# Altium schematic symbol library P1010-BGA425.SchLib: 1 symbol
Pins are listed as number, name and electrical type; pins without a type are passive.

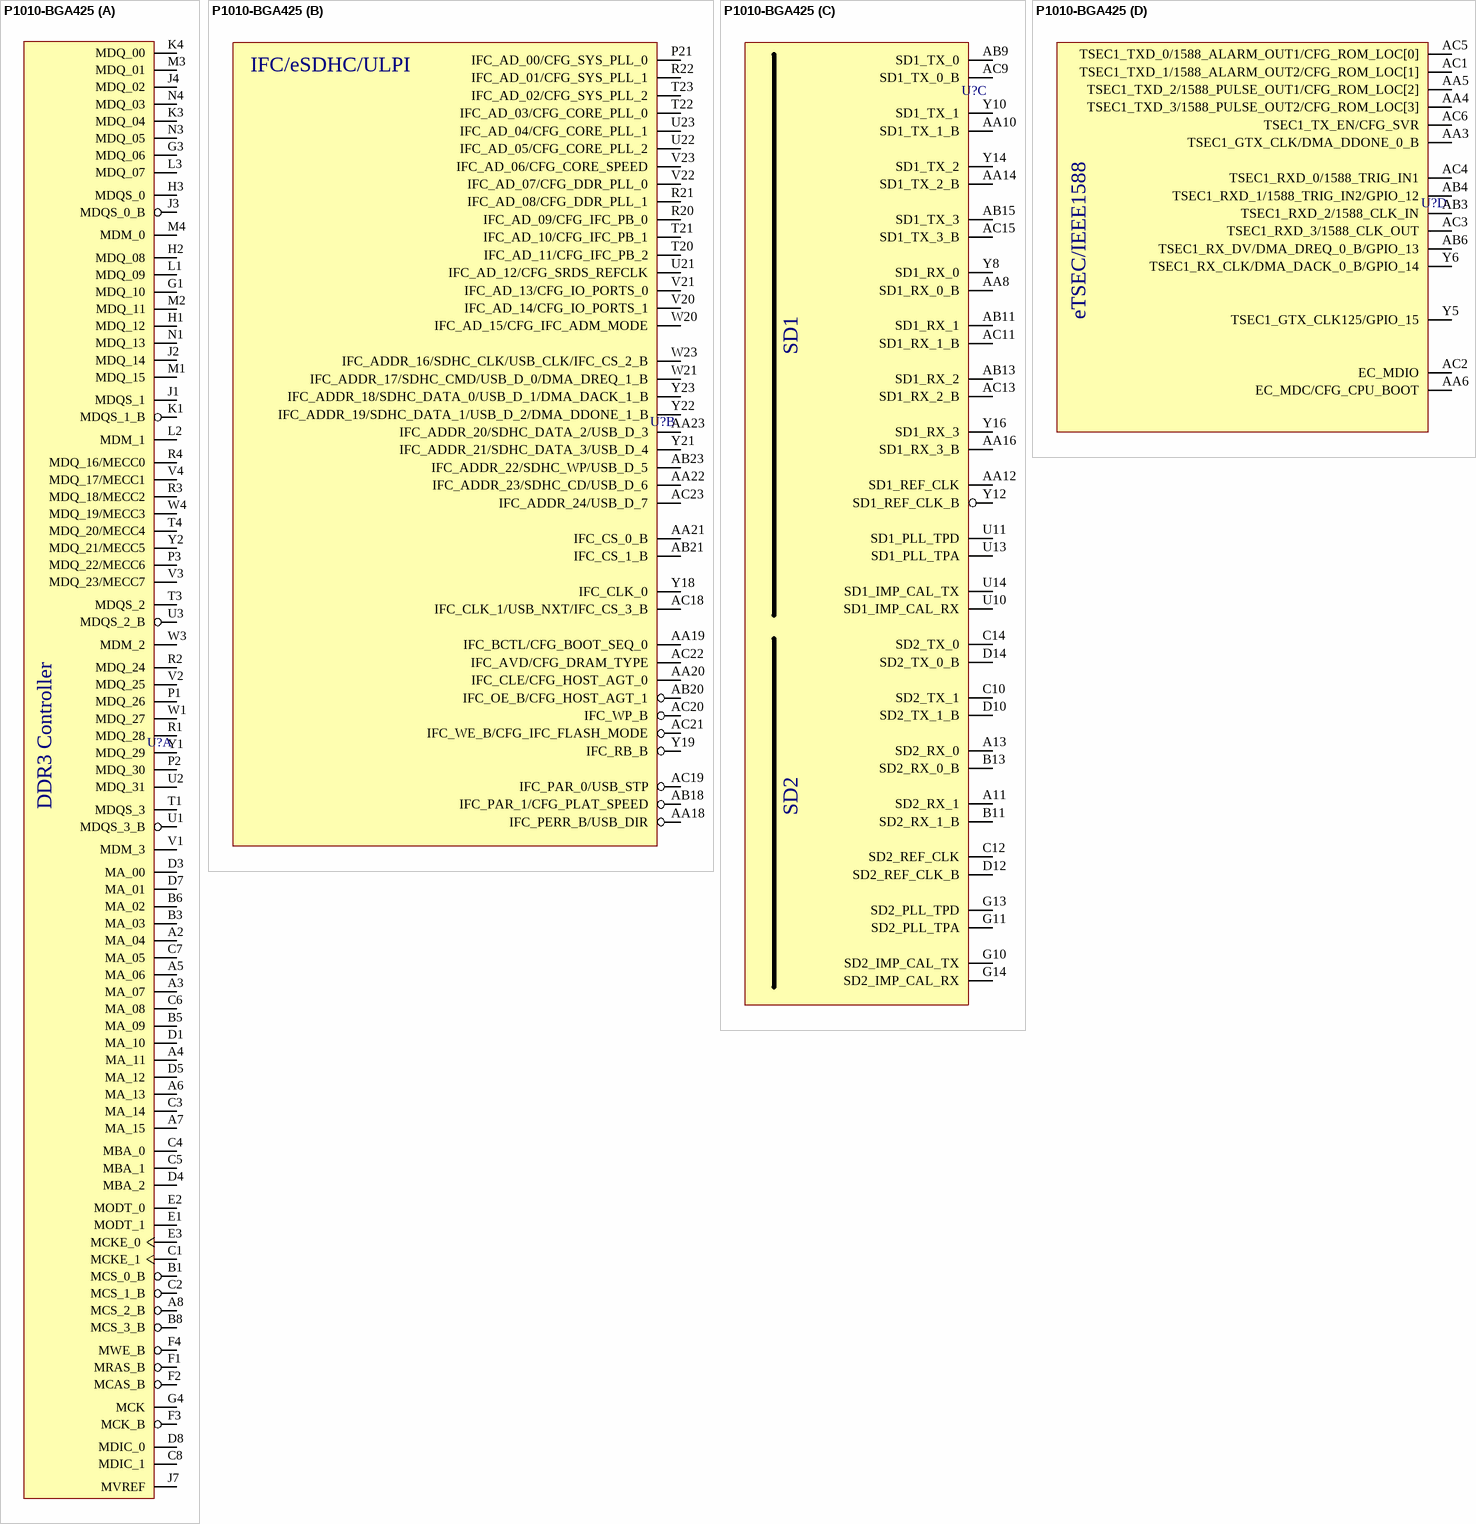
[diagram p0: symbol P1010-BGA425]

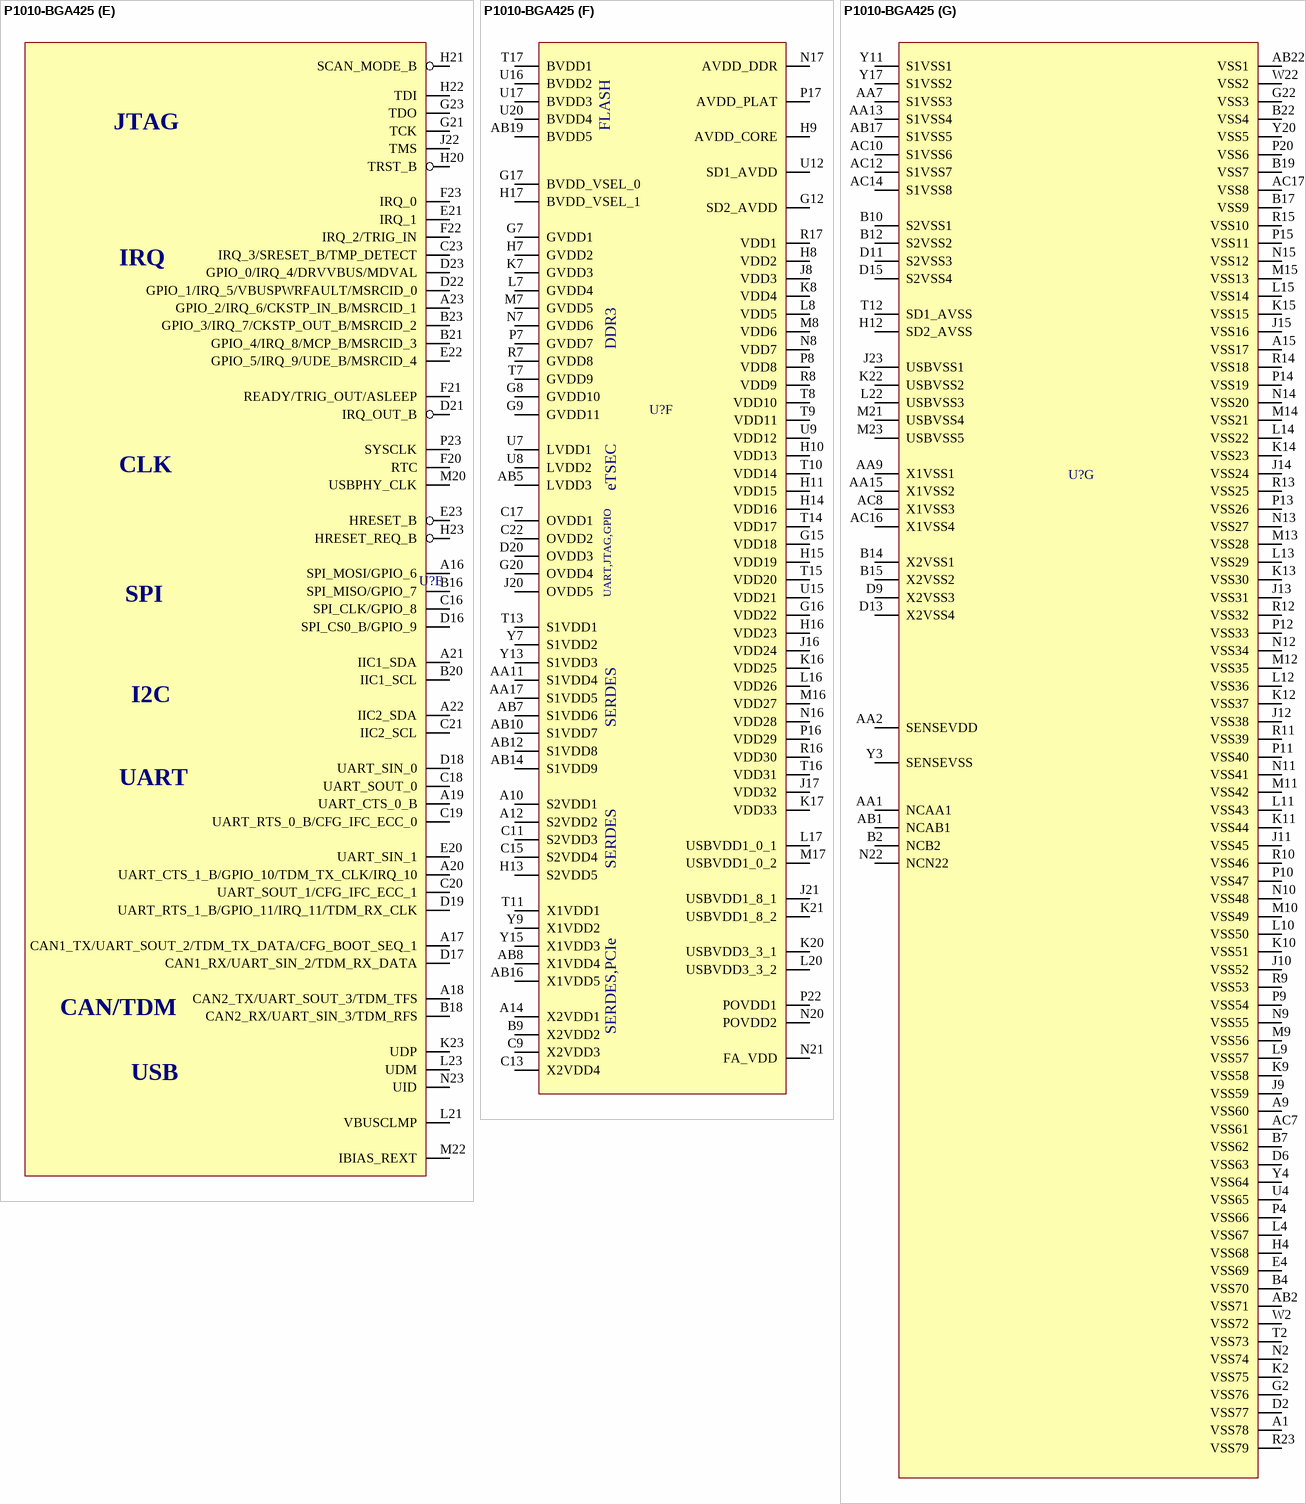
[diagram p1: symbol P1010-BGA425]

## P1010-BGA425
designator U?  (value not drawn)
part A pins: A2 MA_04, A3 MA_07, A4 MA_11, A5 MA_06, A6 MA_13, A7 MA_15, A8 MCS_2_B, B1 MCS_0_B, B3 MA_03, B5 MA_09, B6 MA_02, B8 MCS_3_B, C1 MCKE_1, C2 MCS_1_B, C3 MA_14, C4 MBA_0, C5 MBA_1, C6 MA_08, C7 MA_05, C8 MDIC_1, D1 MA_10, D3 MA_00, D4 MBA_2, D5 MA_12, D7 MA_01, D8 MDIC_0, E1 MODT_1, E2 MODT_0, E3 MCKE_0, F1 MRAS_B, F2 MCAS_B, F3 MCK_B, F4 MWE_B, G1 MDQ_10, G3 MDQ_06, G4 MCK, H1 MDQ_12, H2 MDQ_08, H3 MDQS_0, J1 MDQS_1, J2 MDQ_14, J3 MDQS_0_B, J4 MDQ_02, J7 MVREF, K1 MDQS_1_B, K3 MDQ_04, K4 MDQ_00, L1 MDQ_09, L2 MDM_1, L3 MDQ_07, M1 MDQ_15, M2 MDQ_11, M3 MDQ_01, M4 MDM_0, N1 MDQ_13, N3 MDQ_05, N4 MDQ_03, P1 MDQ_26, P2 MDQ_30, P3 MDQ_22/MECC6, R1 MDQ_28, R2 MDQ_24, R3 MDQ_18/MECC2, R4 MDQ_16/MECC0, T1 MDQS_3, T3 MDQS_2, T4 MDQ_20/MECC4, U1 MDQS_3_B, U2 MDQ_31, U3 MDQS_2_B, V1 MDM_3, V2 MDQ_25, V3 MDQ_23/MECC7, V4 MDQ_17/MECC1, W1 MDQ_27, W3 MDM_2, W4 MDQ_19/MECC3, Y1 MDQ_29, Y2 MDQ_21/MECC5
part B pins: AA18 IFC_PERR_B/USB_DIR, AA19 IFC_BCTL/CFG_BOOT_SEQ_0, AA20 IFC_CLE/CFG_HOST_AGT_0, AA21 IFC_CS_0_B, AA22 IFC_ADDR_23/SDHC_CD/USB_D_6, AA23 IFC_ADDR_20/SDHC_DATA_2/USB_D_3, AB18 IFC_PAR_1/CFG_PLAT_SPEED, AB20 IFC_OE_B/CFG_HOST_AGT_1, AB21 IFC_CS_1_B, AB23 IFC_ADDR_22/SDHC_WP/USB_D_5, AC18 IFC_CLK_1/USB_NXT/IFC_CS_3_B, AC19 IFC_PAR_0/USB_STP, AC20 IFC_WP_B, AC21 IFC_WE_B/CFG_IFC_FLASH_MODE, AC22 IFC_AVD/CFG_DRAM_TYPE, AC23 IFC_ADDR_24/USB_D_7, P21 IFC_AD_00/CFG_SYS_PLL_0, R20 IFC_AD_09/CFG_IFC_PB_0, R21 IFC_AD_08/CFG_DDR_PLL_1, R22 IFC_AD_01/CFG_SYS_PLL_1, T20 IFC_AD_11/CFG_IFC_PB_2, T21 IFC_AD_10/CFG_IFC_PB_1, T22 IFC_AD_03/CFG_CORE_PLL_0, T23 IFC_AD_02/CFG_SYS_PLL_2, U21 IFC_AD_12/CFG_SRDS_REFCLK, U22 IFC_AD_05/CFG_CORE_PLL_2, U23 IFC_AD_04/CFG_CORE_PLL_1, V20 IFC_AD_14/CFG_IO_PORTS_1, V21 IFC_AD_13/CFG_IO_PORTS_0, V22 IFC_AD_07/CFG_DDR_PLL_0, V23 IFC_AD_06/CFG_CORE_SPEED, W20 IFC_AD_15/CFG_IFC_ADM_MODE, W21 IFC_ADDR_17/SDHC_CMD/USB_D_0/DMA_DREQ_1_B, W23 IFC_ADDR_16/SDHC_CLK/USB_CLK/IFC_CS_2_B, Y18 IFC_CLK_0, Y19 IFC_RB_B, Y21 IFC_ADDR_21/SDHC_DATA_3/USB_D_4, Y22 IFC_ADDR_19/SDHC_DATA_1/USB_D_2/DMA_DDONE_1_B, Y23 IFC_ADDR_18/SDHC_DATA_0/USB_D_1/DMA_DACK_1_B
part C pins: A11 SD2_RX_1, A13 SD2_RX_0, AA8 SD1_RX_0_B, AA10 SD1_TX_1_B, AA12 SD1_REF_CLK, AA14 SD1_TX_2_B, AA16 SD1_RX_3_B, AB9 SD1_TX_0, AB11 SD1_RX_1, AB13 SD1_RX_2, AB15 SD1_TX_3, AC9 SD1_TX_0_B, AC11 SD1_RX_1_B, AC13 SD1_RX_2_B, AC15 SD1_TX_3_B, B11 SD2_RX_1_B, B13 SD2_RX_0_B, C10 SD2_TX_1, C12 SD2_REF_CLK, C14 SD2_TX_0, D10 SD2_TX_1_B, D12 SD2_REF_CLK_B, D14 SD2_TX_0_B, G10 SD2_IMP_CAL_TX, G11 SD2_PLL_TPA, G13 SD2_PLL_TPD, G14 SD2_IMP_CAL_RX, U10 SD1_IMP_CAL_RX, U11 SD1_PLL_TPD, U13 SD1_PLL_TPA, U14 SD1_IMP_CAL_TX, Y8 SD1_RX_0, Y10 SD1_TX_1, Y12 SD1_REF_CLK_B, Y14 SD1_TX_2, Y16 SD1_RX_3
part D pins: AA3 TSEC1_GTX_CLK/DMA_DDONE_0_B, AA4 TSEC1_TXD_3/1588_PULSE_OUT2/CFG_ROM_LOC[3], AA5 TSEC1_TXD_2/1588_PULSE_OUT1/CFG_ROM_LOC[2], AA6 EC_MDC/CFG_CPU_BOOT, AB3 TSEC1_RXD_2/1588_CLK_IN, AB4 TSEC1_RXD_1/1588_TRIG_IN2/GPIO_12, AB6 TSEC1_RX_DV/DMA_DREQ_0_B/GPIO_13, AC1 TSEC1_TXD_1/1588_ALARM_OUT2/CFG_ROM_LOC[1], AC2 EC_MDIO, AC3 TSEC1_RXD_3/1588_CLK_OUT, AC4 TSEC1_RXD_0/1588_TRIG_IN1, AC5 TSEC1_TXD_0/1588_ALARM_OUT1/CFG_ROM_LOC[0], AC6 TSEC1_TX_EN/CFG_SVR, Y5 TSEC1_GTX_CLK125/GPIO_15, Y6 TSEC1_RX_CLK/DMA_DACK_0_B/GPIO_14
part E pins: A16 SPI_MOSI/GPIO_6, A17 CAN1_TX/UART_SOUT_2/TDM_TX_DATA/CFG_BOOT_SEQ_1, A18 CAN2_TX/UART_SOUT_3/TDM_TFS, A19 UART_CTS_0_B, A20 UART_CTS_1_B/GPIO_10/TDM_TX_CLK/IRQ_10, A21 IIC1_SDA, A22 IIC2_SDA, A23 GPIO_2/IRQ_6/CKSTP_IN_B/MSRCID_1, B16 SPI_MISO/GPIO_7, B18 CAN2_RX/UART_SIN_3/TDM_RFS, B20 IIC1_SCL, B21 GPIO_4/IRQ_8/MCP_B/MSRCID_3, B23 GPIO_3/IRQ_7/CKSTP_OUT_B/MSRCID_2, C16 SPI_CLK/GPIO_8, C18 UART_SOUT_0, C19 UART_RTS_0_B/CFG_IFC_ECC_0, C20 UART_SOUT_1/CFG_IFC_ECC_1, C21 IIC2_SCL, C23 IRQ_3/SRESET_B/TMP_DETECT, D16 SPI_CS0_B/GPIO_9, D17 CAN1_RX/UART_SIN_2/TDM_RX_DATA, D18 UART_SIN_0, D19 UART_RTS_1_B/GPIO_11/IRQ_11/TDM_RX_CLK, D21 IRQ_OUT_B, D22 GPIO_1/IRQ_5/VBUSPWRFAULT/MSRCID_0, D23 GPIO_0/IRQ_4/DRVVBUS/MDVAL, E20 UART_SIN_1, E21 IRQ_1, E22 GPIO_5/IRQ_9/UDE_B/MSRCID_4, E23 HRESET_B, F20 RTC, F21 READY/TRIG_OUT/ASLEEP, F22 IRQ_2/TRIG_IN, F23 IRQ_0, G21 TCK, G23 TDO, H20 TRST_B, H21 SCAN_MODE_B, H22 TDI, H23 HRESET_REQ_B, J22 TMS, K23 UDP, L21 VBUSCLMP, L23 UDM, M20 USBPHY_CLK, M22 IBIAS_REXT, N23 UID, P23 SYSCLK
part F pins: A10 S2VDD1 (power), A12 S2VDD2 (power), A14 X2VDD1 (power), AA11 S1VDD4 (power), AA17 S1VDD5 (power), AB5 LVDD3 (power), AB7 S1VDD6 (power), AB8 X1VDD4 (power), AB10 S1VDD7 (power), AB12 S1VDD8 (power), AB14 S1VDD9 (power), AB16 X1VDD5 (power), AB19 BVDD5 (power), B9 X2VDD2 (power), C9 X2VDD3 (power), C11 S2VDD3 (power), C13 X2VDD4 (power), C15 S2VDD4 (power), C17 OVDD1 (power), C22 OVDD2 (power), D20 OVDD3 (power), G7 GVDD1 (power), G8 GVDD10 (power), G9 GVDD11 (power), G12 SD2_AVDD (power), G15 VDD18 (power), G16 VDD22 (power), G17 BVDD_VSEL_0 (power), G20 OVDD4 (power), H7 GVDD2 (power), H8 VDD2 (power), H9 AVDD_CORE (power), H10 VDD13 (power), H11 VDD15 (power), H13 S2VDD5 (power), H14 VDD16 (power), H15 VDD19 (power), H16 VDD23 (power), H17 BVDD_VSEL_1 (power), J8 VDD3 (power), J16 VDD24 (power), J17 VDD32 (power), J20 OVDD5 (power), J21 USBVDD1_8_1 (power), K7 GVDD3 (power), K8 VDD4 (power), K16 VDD25 (power), K17 VDD33 (power), K20 USBVDD3_3_1 (power), K21 USBVDD1_8_2 (power), L7 GVDD4 (power), L8 VDD5 (power), L16 VDD26 (power), L17 USBVDD1_0_1 (power), L20 USBVDD3_3_2 (power), M7 GVDD5 (power), M8 VDD6 (power), M16 VDD27 (power), M17 USBVDD1_0_2 (power), N7 GVDD6 (power), N8 VDD7 (power), N16 VDD28 (power), N17 AVDD_DDR (power), N20 POVDD2 (power), N21 FA_VDD (power), P7 GVDD7 (power), P8 VDD8 (power), P16 VDD29 (power), P17 AVDD_PLAT (power), P22 POVDD1 (power), R7 GVDD8 (power), R8 VDD9 (power), R16 VDD30 (power), R17 VDD1 (power), T7 GVDD9 (power), T8 VDD10 (power), T9 VDD11 (power), T10 VDD14 (power), T11 X1VDD1 (power), T13 S1VDD1 (power), T14 VDD17 (power), T15 VDD20 (power), T16 VDD31 (power), T17 BVDD1 (power), U7 LVDD1 (power), U8 LVDD2 (power), U9 VDD12 (power), U12 SD1_AVDD (power), U15 VDD21 (power), U16 BVDD2 (power), U17 BVDD3 (power), U20 BVDD4 (power), Y7 S1VDD2 (power), Y9 X1VDD2 (power), Y13 S1VDD3 (power), Y15 X1VDD3 (power)
part G pins: A1 VSS78 (power), A9 VSS60 (power), A15 VSS17 (power), AA1 NCAA1 (power), AA2 SENSEVDD (power), AA7 S1VSS3 (power), AA9 X1VSS1 (power), AA13 S1VSS4 (power), AA15 X1VSS2 (power), AB1 NCAB1 (power), AB2 VSS71 (power), AB17 S1VSS5 (power), AB22 VSS1 (power), AC7 VSS61 (power), AC8 X1VSS3 (power), AC10 S1VSS6 (power), AC12 S1VSS7 (power), AC14 S1VSS8 (power), AC16 X1VSS4 (power), AC17 VSS8 (power), B2 NCB2 (power), B4 VSS70 (power), B7 VSS62 (power), B10 S2VSS1 (power), B12 S2VSS2 (power), B14 X2VSS1 (power), B15 X2VSS2 (power), B17 VSS9 (power), B19 VSS7 (power), B22 VSS4 (power), D2 VSS77 (power), D6 VSS63 (power), D9 X2VSS3 (power), D11 S2VSS3 (power), D13 X2VSS4 (power), D15 S2VSS4 (power), E4 VSS69 (power), G2 VSS76 (power), G22 VSS3 (power), H4 VSS68 (power), H12 SD2_AVSS (power), J9 VSS59 (power), J10 VSS52 (power), J11 VSS45 (power), J12 VSS38 (power), J13 VSS31 (power), J14 VSS24 (power), J15 VSS16 (power), J23 USBVSS1 (power), K2 VSS75 (power), K9 VSS58 (power), K10 VSS51 (power), K11 VSS44 (power), K12 VSS37 (power), K13 VSS30 (power), K14 VSS23 (power), K15 VSS15 (power), K22 USBVSS2 (power), L4 VSS67 (power), L9 VSS57 (power), L10 VSS50 (power), L11 VSS43 (power), L12 VSS36 (power), L13 VSS29 (power), L14 VSS22 (power), L15 VSS14 (power), L22 USBVSS3 (power), M9 VSS56 (power), M10 VSS49 (power), M11 VSS42 (power), M12 VSS35 (power), M13 VSS28 (power), M14 VSS21 (power), M15 VSS13 (power), M21 USBVSS4 (power), M23 USBVSS5 (power), N2 VSS74 (power), N9 VSS55 (power), N10 VSS48 (power), N11 VSS41 (power), N12 VSS34 (power), N13 VSS27 (power), N14 VSS20 (power), N15 VSS12 (power), N22 NCN22 (power), P4 VSS66 (power), P9 VSS54 (power), P10 VSS47 (power), P11 VSS40 (power), P12 VSS33 (power), P13 VSS26 (power), P14 VSS19 (power), P15 VSS11 (power), P20 VSS6 (power), R9 VSS53 (power), R10 VSS46 (power), R11 VSS39 (power), R12 VSS32 (power), R13 VSS25 (power), R14 VSS18 (power), R15 VSS10 (power), R23 VSS79 (power), T2 VSS73 (power), T12 SD1_AVSS (power), U4 VSS65 (power), W2 VSS72 (power), W22 VSS2 (power), Y3 SENSEVSS (power), Y4 VSS64 (power), Y11 S1VSS1 (power), Y17 S1VSS2 (power), Y20 VSS5 (power)
part A text: DDR3 Controller
part B text: IFC/eSDHC/ULPI
part C text: SD1; SD2
part D text: eTSEC/IEEE1588
part E text: JTAG; IRQ; CLK; SPI; I2C; UART; CAN/TDM; USB
part F text: FLASH; DDR3; eTSEC; UART,JTAG,GPIO; SERDES; SERDES,PCIe